# EAGLE library part ESP-12-THROUGH (library ESP8266)
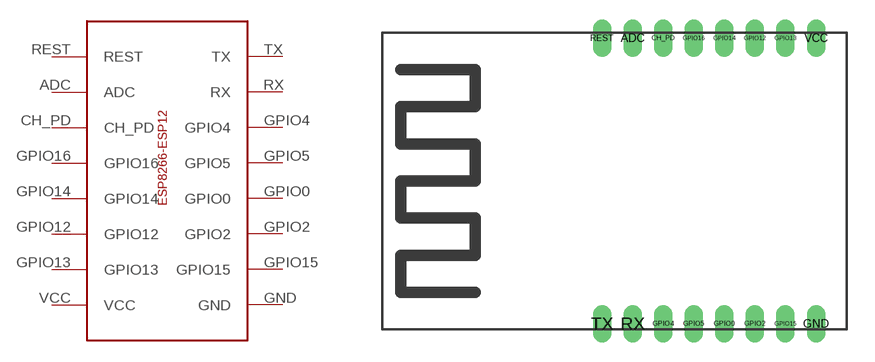
[diagram p1: symbol with the pads of ESP-12-THROUGH; footprint ESP-12-THROUGH]

Designator prefix -

## ESP-12-THROUGH  [ESP-12-THROUGH]
ADC  ADC
CH_PD  CH_PD
GND  GND
GPIO0  GPIO0
GPIO2  GPIO2
GPIO4  GPIO4
GPIO5  GPIO5
GPIO12  GPIO12
GPIO13  GPIO13
GPIO14  GPIO14
GPIO15  GPIO15
GPIO16  GPIO16
REST  REST
RX  RX
TX  TX
VCC  VCC

## Footprint ESP-12-THROUGH (pad centres in mm)
drill 0.5 pad 0.813 long: ADC -11.525,7.7; CH_PD -9.878,7.7; GND -1.646,-7.7; GPIO0 -6.586,-7.7; GPIO2 -4.939,-7.7; GPIO4 -9.878,-7.7; GPIO5 -8.232,-7.7; GPIO12 -4.939,7.7; GPIO13 -3.293,7.7; GPIO14 -6.586,7.7; GPIO15 -3.293,-7.7; GPIO16 -8.232,7.7; REST -13.171,7.7; RX -11.525,-7.7; TX -13.171,-7.7; VCC -1.646,7.7